# Altium footprint library GBU_4L.PcbLib: 1 footprints
Each footprint in its own frame and in the unit in brackets; x right, y up, seen from the top. Pads: shape width x height; smd on the part's side, far side on the other; paste and mask are expansions set on the pad; w line width, h text height; cw(c..) or ccw(c..) is an arc to the next point about the centre after c.
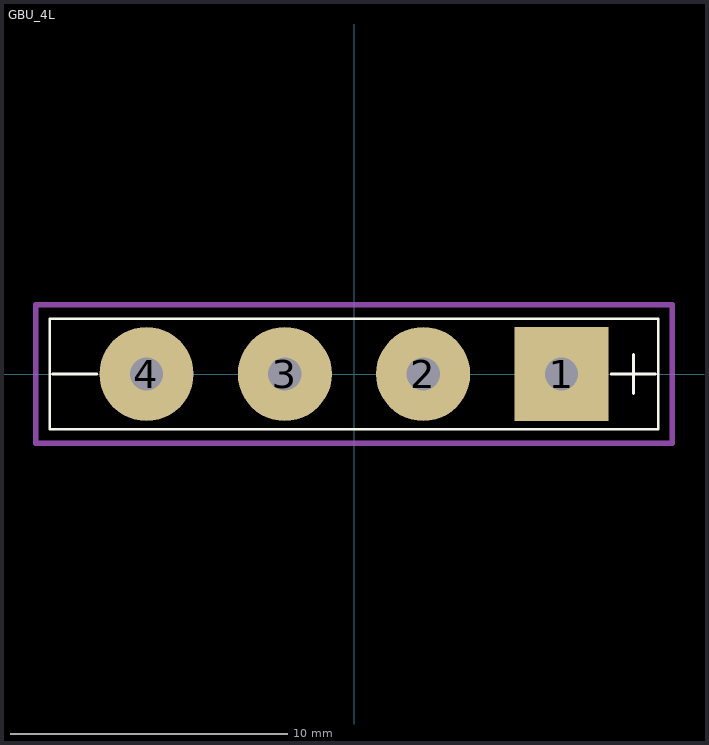
[diagram p0: the footprint, top view; thin cyan lines are the x and y axes]

## GBU_4L [mm]
pads (4):
  rect 3.4x3.4 / inner round 3.4 / far side rect 3.4x3.4 hole 1.2: 1(7.5,0)
  round 3.4 hole 1.2: 2(2.5,0) 3(-2.5,0) 4(-7.5,0)
Top Overlay:
  lines w0.1: -10.901,0 -9.299,0 ; 9.299,0 10.901,0 ; 10.1,-0.7 10.1,0.7 ; -11,-2 11,-2 11,2 -11,2 -11,-2
Mechanical 15:
  lines w0.2: -11.5,-2.5 11.5,-2.5 11.5,2.5 -11.5,2.5 -11.5,-2.5
3D body "step_temp.STEP": height 20.83, standoff -15.97, extent -11.025,-1.715 11.025,1.715